# Altium footprint library molex-usb-c.PcbLib: 1 footprints
Each footprint in its own frame and in the unit in brackets; x right, y up, seen from the top. Pads: shape width x height; smd on the part's side, far side on the other; paste and mask are expansions set on the pad; w line width, h text height; cw(c..) or ccw(c..) is an arc to the next point about the centre after c.
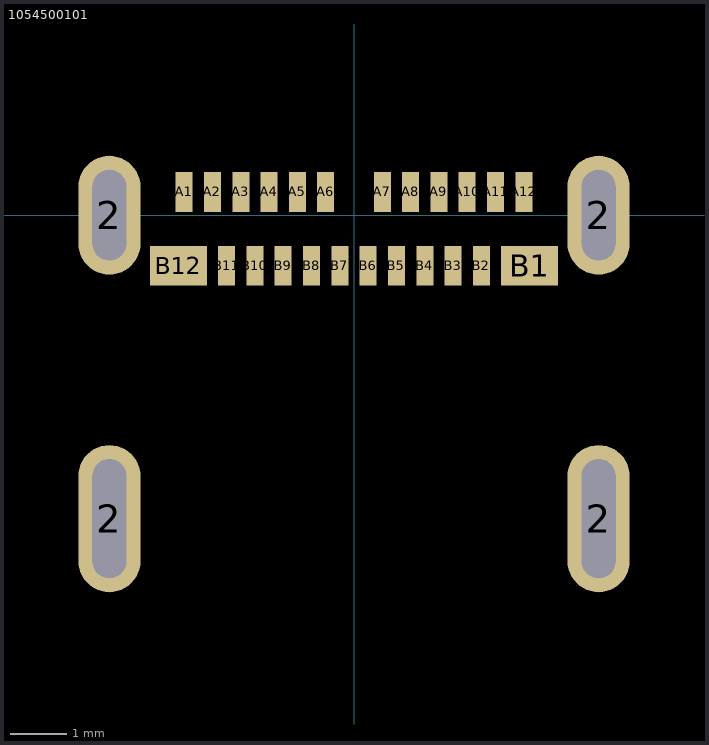
[diagram p0: the footprint, top view; thin cyan lines are the x and y axes]

## 1054500101 [mm] "USB-C RA RECEPTACLE SMT"
height 3.24
pads (28):
  oval 1.1x2.6 hole 0.6 slot 2.1 at 90 deg: 2(-4.32,-5.36) 2(4.32,-5.36)
  oval 1.1x2.1 hole 0.6 slot 1.6 at 90 deg: 2(-4.32,0) 2(4.32,0)
  rect 0.3x0.7 smd: A1(-3,0.41) A2(-2.5,0.41) A3(-2,0.41) A4(-1.5,0.41) A5(-1,0.41) A6(-0.5,0.41) A7(0.5,0.41) A8(1,0.41) A9(1.5,0.41) A10(2,0.41) A11(2.5,0.41) A12(3,0.41) B2(2.25,-0.89) B3(1.75,-0.89) B4(1.25,-0.89) B5(0.75,-0.89) B6(0.25,-0.89) B7(-0.25,-0.89) B8(-0.75,-0.89) B9(-1.25,-0.89) B10(-1.75,-0.89) B11(-2.25,-0.89)
  rect 1x0.7 smd: B1(3.1,-0.89) B12(-3.1,-0.89)
3D body "1054500101.stp": height 3.18, standoff -0.78, extent -4.47,-7.3 4.47,0.6